# Altium footprint library TFM-110-02-L-D.PcbLib: 1 footprints
Each footprint in its own frame and in the unit in brackets; x right, y up, seen from the top. Pads: shape width x height; smd on the part's side, far side on the other; paste and mask are expansions set on the pad; w line width, h text height; cw(c..) or ccw(c..) is an arc to the next point about the centre after c.
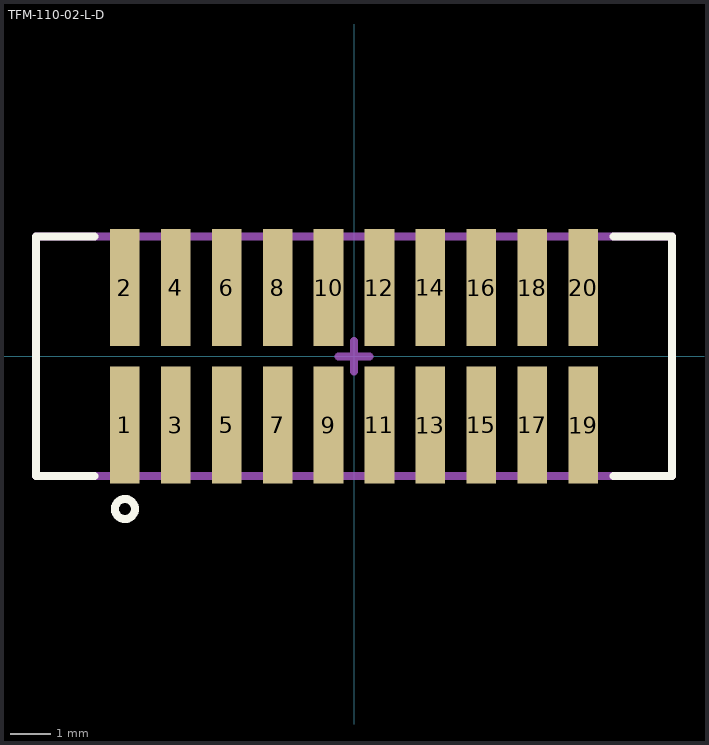
[diagram p0: the footprint, top view; thin cyan lines are the x and y axes]

## TFM-110-02-L-D [mm] "Samtec connector"
height 5.6
pads (20):
  rect 0.74x2.92 smd: 1(-5.715,-1.715) 2(-5.715,1.715) 3(-4.445,-1.715) 4(-4.445,1.715) 5(-3.175,-1.715) 6(-3.175,1.715) 7(-1.905,-1.715) 8(-1.905,1.715) 9(-0.635,-1.715) 10(-0.635,1.715) 11(0.635,-1.715) 12(0.635,1.715) 13(1.905,-1.715) 14(1.905,1.715) 15(3.175,-1.715) 16(3.175,1.715) 17(4.445,-1.715) 18(4.445,1.715) 19(5.715,-1.715) 20(5.715,1.715)
Top Overlay:
  circle w0.2: c-5.715,-3.81 r0.25
  lines w0.2: -6.477,-2.985 -7.937,-2.985 -7.937,2.985 -6.477,2.985 ; 6.477,-2.985 7.937,-2.985 7.937,2.985 6.477,2.985
Mechanical 13:
  lines w0.2: -7.937,-2.985 7.937,-2.985 7.937,2.985 -7.937,2.985 -7.937,-2.985
Mechanical 15:
  lines w0.2: -0.381,0 0.381,0 ; 0,-0.381 0,0.381
3D body "TFM-110-02-L-D.stp": height 5.74, standoff 0, extent -7.937,-2.985 7.937,2.985